# Altium schematic symbol library LTC4020.SchLib: 1 symbol
Pins are listed as number, name and electrical type; pins without a type are passive.

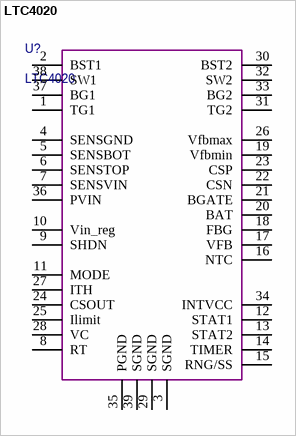
[diagram p0: symbol LTC4020]

## LTC4020
designator U?
pins: 1 TG1, 2 BST1, 3 SGND, 4 SENSGND, 5 SENSBOT, 6 SENSTOP, 7 SENSVIN, 8 RT, 9 SHDN, 10 Vin_reg, 11 MODE, 12 STAT1, 13 STAT2, 14 TIMER, 15 RNG/SS, 16 NTC, 17 VFB, 18 FBG, 19 Vfbmin, 20 BAT, 21 BGATE, 22 CSN, 23 CSP, 24 CSOUT, 25 Ilimit, 26 Vfbmax, 27 ITH, 28 VC, 29 SGND, 30 BST2, 31 TG2, 32 SW2, 33 BG2, 34 INTVCC, 35 PGND, 36 PVIN, 37 BG1, 38 SW1, 39 SGND